# EAGLE library part BME280 (library 1_domaci)
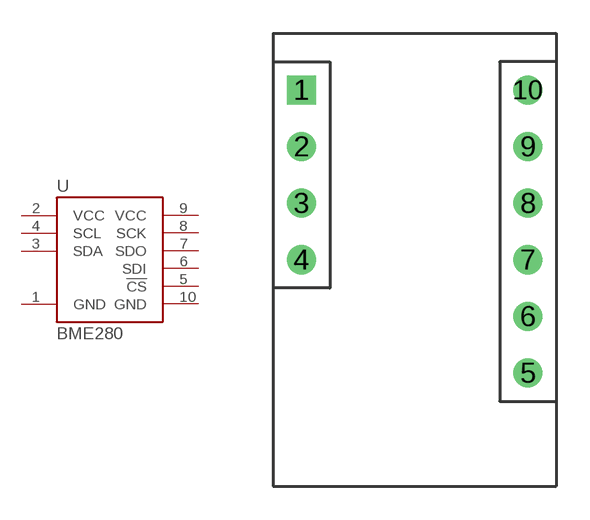
[diagram p11: symbol with the pads of BME280; footprint BME280]

Designator prefix U

## BME280  [BME280]
1  GND  pwr
2  VCC  pwr
3  SDA
4  SCL
5  !CS
6  SDI
7  SDO
8  SCK
9  VCC  pwr
10  GND  pwr

## Footprint BME280 (pad centres in mm)
drill 0.8 square: 1 -5.08,7.62
drill 0.8: 2 -5.08,5.08; 3 -5.08,2.54; 4 -5.08,0; 5 5.08,-5.08; 6 5.08,-2.54; 7 5.08,0; 8 5.08,2.54; 9 5.08,5.08; 10 5.08,7.62